# Altium schematic symbol library SCH - MCU - ATTINY - MICROCHIP ATTINY20-UUR WLCSP12.SchLib: 1 symbol
Pins are listed as number, name and electrical type; pins without a type are passive.

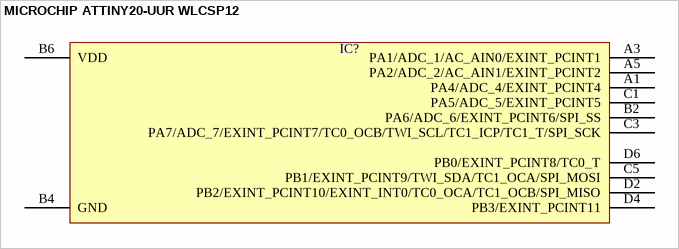
[diagram p0: symbol MICROCHIP ATTINY20-UUR WLCSP12]

## MICROCHIP ATTINY20-UUR WLCSP12
designator IC?  (value not drawn)
pins: A1 PA4/ADC_4/EXINT_PCINT4, A3 PA1/ADC_1/AC_AIN0/EXINT_PCINT1, A5 PA2/ADC_2/AC_AIN1/EXINT_PCINT2, B2 PA6/ADC_6/EXINT_PCINT6/SPI_SS, B4 GND, B6 VDD, C1 PA5/ADC_5/EXINT_PCINT5, C3 PA7/ADC_7/EXINT_PCINT7/TC0_OCB/TWI_SCL/TC1_ICP/TC1_T/SPI_SCK, C5 PB1/EXINT_PCINT9/TWI_SDA/TC1_OCA/SPI_MOSI, D2 PB2/EXINT_PCINT10/EXINT_INT0/TC0_OCA/TC1_OCB/SPI_MISO, D4 PB3/EXINT_PCINT11, D6 PB0/EXINT_PCINT8/TC0_T